# EAGLE library part RADIO-RECEIVER-DCF77 (library acs712)
DCF-77 Longwave Radio Time Signal Receiver based on MAS6180B1 chip
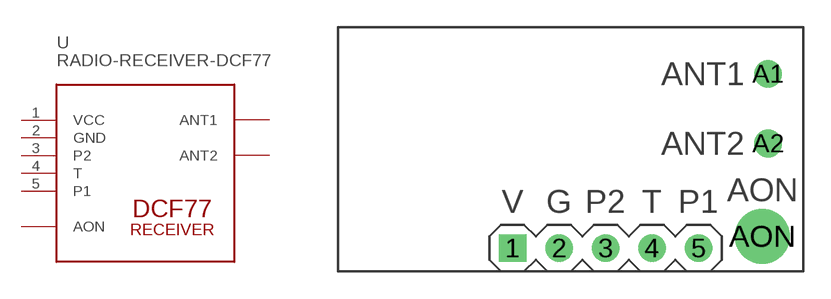
[diagram p47: symbol with the pads of RADIO-RECEIVER-DCF77; footprint RADIO-RECEIVER-DCF77]

Designator prefix -

## RADIO-RECEIVER-DCF77  [RADIO-RECEIVER-DCF77]
1  VCC  pwr
2  GND  pwr
3  P2
4  T  out
5  P1
A1  ANT1  pas
A2  ANT2  pas
AON  AON

## Footprint RADIO-RECEIVER-DCF77 (pad centres in mm)
DCF-77 Longwave Radio Time Signal Receiver based on MAS6180B1 chip
drill 1 square: 1 -3.175,-5.08
drill 1: 2 -0.635,-5.08; 3 1.905,-5.08; 4 4.445,-5.08; 5 6.985,-5.08; A1 10.795,4.445; A2 10.795,0.635
drill 2: AON 10.477,-4.445